# EAGLE library part TLS850B0TBV33ATMA1 (library SamacSys_Parts)
INFINEON - TLS850B0TBV33ATMA1 - LDO, AEC-Q100, FIXED, 3.3V, 0.5A, TO-263 Source: Datasheet <https://componentsearchengine.com/Datasheets/1/TLS850B0TBV33ATMA1.pdf>
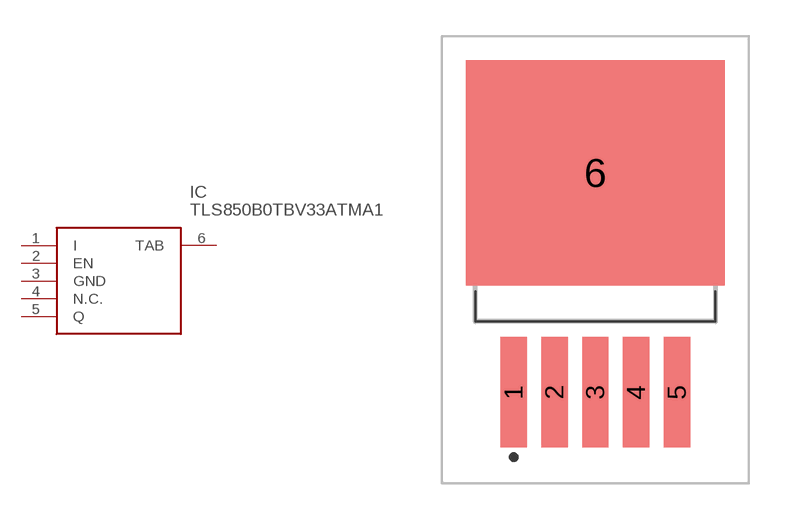
[diagram p15: symbol with the pads of TLS850B0TBV33ATMA1; footprint TLS850B0TBV33ATMA1]

Designator prefix IC

## TLS850B0TBV33ATMA1 (DESCRIPTION: INFINEON - TLS850B0TBV33ATMA1 - LDO, AEC-Q100, FIXED, 3.3V, 0.5A, TO-263; HEIGHT: 4.4mm; MANUFACTURER_NAME: Infineon; MANUFACTURER_PART_NUMBER: TLS850B0TBV33ATMA1; MOUSER_PART_NUMBER: 726-TLS850B0TBV33ATM; MOUSER_PRICE-STOCK: https://www.mouser.com/Search/Refine.aspx?Keyword=726-TLS850B0TBV33ATM)  [TLS850B0TBV33ATMA1]
1  I
2  EN
3  GND
4  N.C.  nc
5  Q
6  TAB

## Footprint TLS850B0TBV33ATMA1 (pad centres in mm)
PG-TO263-5-1
smd 1.1 x 4.6: 1 -3.4,-12.2; 2 -1.7,-12.2; 3 0,-12.2; 4 1.7,-12.2; 5 3.4,-12.2
smd 10.8 x 9.4: 6 0,-3.05